# EAGLE library part RASPBERRYPI-CM4 (library CM4)
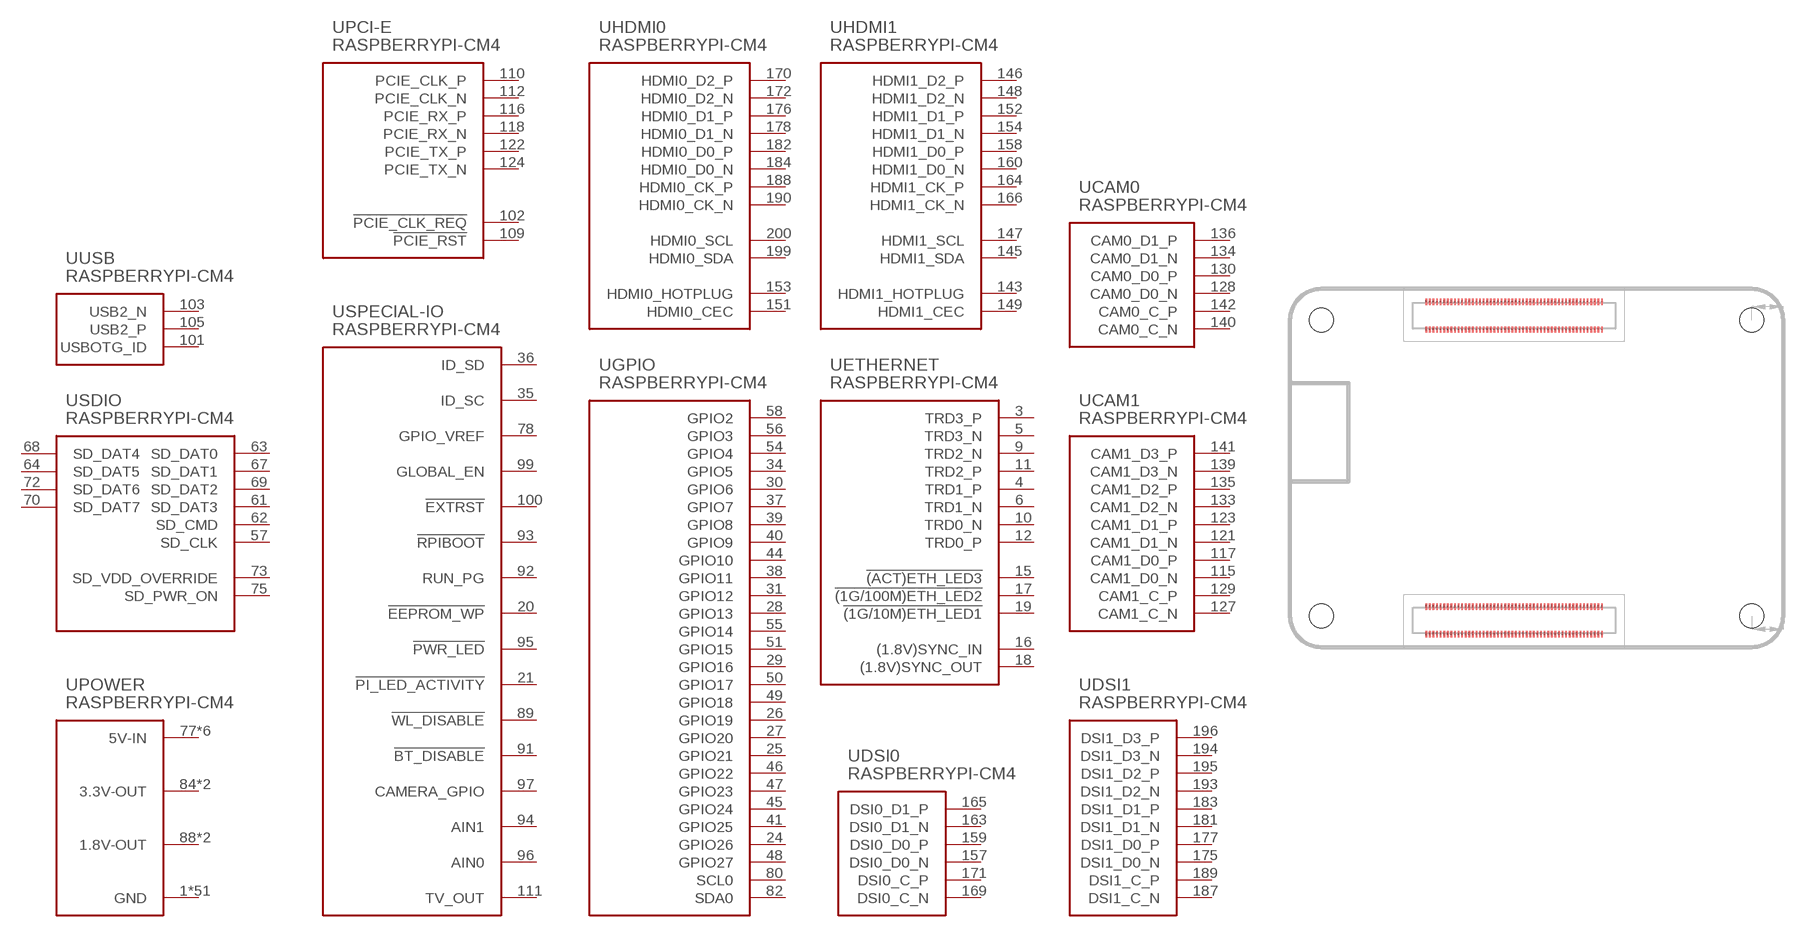
[diagram p0: symbol with the pads of RASPBERRYPI-CM4; footprint RASPBERRYPI-CM4]

Designator prefix -; gates POWER=CM4-POWER SDIO=CM4-SD SPECIAL-IO=CM4-SPECIAL-IO USB=CM4-USB GPIO=CM4-GPIO PCI-E=CM4-PCIE HDMI0=CM4-HDMI0 HDMI1=CM4-HDMI1 ETHERNET=CM4-ETHERNET DSI1=CM4-DSI1 DSI0=CM4-DSI0 CAM1=CM4-CAM1 CAM0=CM4-CAM0

## RASPBERRYPI-CM4  [RASPBERRYPI-CM4]
1  POWER:GND
2  POWER:GND
3  ETHERNET:TRD3_P
4  ETHERNET:TRD1_P
5  ETHERNET:TRD3_N
6  ETHERNET:TRD1_N
7  POWER:GND
8  POWER:GND
9  ETHERNET:TRD2_N
10  ETHERNET:TRD0_N
11  ETHERNET:TRD2_P
12  ETHERNET:TRD0_P
13  POWER:GND
14  POWER:GND
15  ETHERNET:!(ACT)ETH_LED3
16  ETHERNET:(1.8V)SYNC_IN
17  ETHERNET:!(1G/100M)ETH_LED2
18  ETHERNET:(1.8V)SYNC_OUT
19  ETHERNET:!(1G/10M)ETH_LED1
20  SPECIAL-IO:!EEPROM_WP
21  SPECIAL-IO:!PI_LED_ACTIVITY
22  POWER:GND
23  POWER:GND
24  GPIO:GPIO26
25  GPIO:GPIO21
26  GPIO:GPIO19
27  GPIO:GPIO20
28  GPIO:GPIO13
29  GPIO:GPIO16
30  GPIO:GPIO6
31  GPIO:GPIO12
32  POWER:GND
33  POWER:GND
34  GPIO:GPIO5
35  SPECIAL-IO:ID_SC
36  SPECIAL-IO:ID_SD
37  GPIO:GPIO7
38  GPIO:GPIO11
39  GPIO:GPIO8
40  GPIO:GPIO9
41  GPIO:GPIO25
42  POWER:GND
43  POWER:GND
44  GPIO:GPIO10
45  GPIO:GPIO24
46  GPIO:GPIO22
47  GPIO:GPIO23
48  GPIO:GPIO27
49  GPIO:GPIO18
50  GPIO:GPIO17
51  GPIO:GPIO15
52  POWER:GND
53  POWER:GND
54  GPIO:GPIO4
55  GPIO:GPIO14
56  GPIO:GPIO3
57  SDIO:SD_CLK
58  GPIO:GPIO2
59  POWER:GND
60  POWER:GND
61  SDIO:SD_DAT3
62  SDIO:SD_CMD
63  SDIO:SD_DAT0
64  SDIO:SD_DAT5
65  POWER:GND
66  POWER:GND
67  SDIO:SD_DAT1
68  SDIO:SD_DAT4
69  SDIO:SD_DAT2
70  SDIO:SD_DAT7
71  POWER:GND
72  SDIO:SD_DAT6
73  SDIO:SD_VDD_OVERRIDE
74  POWER:GND
75  SDIO:SD_PWR_ON
77  POWER:5V-IN  pwr
78  SPECIAL-IO:GPIO_VREF
79  POWER:5V-IN  pwr
80  GPIO:SCL0
81  POWER:5V-IN  pwr
82  GPIO:SDA0
83  POWER:5V-IN  pwr
84  POWER:3.3V-OUT  pwr
85  POWER:5V-IN  pwr
86  POWER:3.3V-OUT  pwr
87  POWER:5V-IN  pwr
88  POWER:1.8V-OUT  pwr
89  SPECIAL-IO:!WL_DISABLE
90  POWER:1.8V-OUT  pwr
91  SPECIAL-IO:!BT_DISABLE
92  SPECIAL-IO:RUN_PG
93  SPECIAL-IO:!RPIBOOT
94  SPECIAL-IO:AIN1
95  SPECIAL-IO:!PWR_LED
96  SPECIAL-IO:AIN0
97  SPECIAL-IO:CAMERA_GPIO
98  POWER:GND
99  SPECIAL-IO:GLOBAL_EN
100  SPECIAL-IO:!EXTRST
101  USB:USBOTG_ID
102  PCI-E:!PCIE_CLK_REQ
103  USB:USB2_N
105  USB:USB2_P
107  POWER:GND
108  POWER:GND
109  PCI-E:!PCIE_RST
110  PCI-E:PCIE_CLK_P
111  SPECIAL-IO:TV_OUT
112  PCI-E:PCIE_CLK_N
113  POWER:GND
114  POWER:GND
115  CAM1:CAM1_D0_N
116  PCI-E:PCIE_RX_P
117  CAM1:CAM1_D0_P
118  PCI-E:PCIE_RX_N
119  POWER:GND
120  POWER:GND
121  CAM1:CAM1_D1_N
122  PCI-E:PCIE_TX_P
123  CAM1:CAM1_D1_P
124  PCI-E:PCIE_TX_N
125  POWER:GND
126  POWER:GND
127  CAM1:CAM1_C_N
128  CAM0:CAM0_D0_N
129  CAM1:CAM1_C_P
130  CAM0:CAM0_D0_P
131  POWER:GND
132  POWER:GND
133  CAM1:CAM1_D2_N
134  CAM0:CAM0_D1_N
135  CAM1:CAM1_D2_P
136  CAM0:CAM0_D1_P
137  POWER:GND
138  POWER:GND
139  CAM1:CAM1_D3_N
140  CAM0:CAM0_C_N
141  CAM1:CAM1_D3_P
142  CAM0:CAM0_C_P
143  HDMI1:HDMI1_HOTPLUG
144  POWER:GND
145  HDMI1:HDMI1_SDA
146  HDMI1:HDMI1_D2_P
147  HDMI1:HDMI1_SCL
148  HDMI1:HDMI1_D2_N
149  HDMI1:HDMI1_CEC
150  POWER:GND
151  HDMI0:HDMI0_CEC
152  HDMI1:HDMI1_D1_P
153  HDMI0:HDMI0_HOTPLUG
154  HDMI1:HDMI1_D1_N
155  POWER:GND
156  POWER:GND
157  DSI0:DSI0_D0_N
158  HDMI1:HDMI1_D0_P
159  DSI0:DSI0_D0_P
160  HDMI1:HDMI1_D0_N
161  POWER:GND
162  POWER:GND
163  DSI0:DSI0_D1_N
164  HDMI1:HDMI1_CK_P
165  DSI0:DSI0_D1_P
166  HDMI1:HDMI1_CK_N
167  POWER:GND
168  POWER:GND
169  DSI0:DSI0_C_N
170  HDMI0:HDMI0_D2_P
171  DSI0:DSI0_C_P
172  HDMI0:HDMI0_D2_N
173  POWER:GND
174  POWER:GND
175  DSI1:DSI1_D0_N
176  HDMI0:HDMI0_D1_P
177  DSI1:DSI1_D0_P
178  HDMI0:HDMI0_D1_N
179  POWER:GND
180  POWER:GND
181  DSI1:DSI1_D1_N
182  HDMI0:HDMI0_D0_P
183  DSI1:DSI1_D1_P
184  HDMI0:HDMI0_D0_N
185  POWER:GND
186  POWER:GND
187  DSI1:DSI1_C_N
188  HDMI0:HDMI0_CK_P
189  DSI1:DSI1_C_P
190  HDMI0:HDMI0_CK_N
191  POWER:GND
192  POWER:GND
193  DSI1:DSI1_D2_N
194  DSI1:DSI1_D3_N
195  DSI1:DSI1_D2_P
196  DSI1:DSI1_D3_P
197  POWER:GND
198  POWER:GND
199  HDMI0:HDMI0_SDA
200  HDMI0:HDMI0_SCL

## Footprint RASPBERRYPI-CM4 (pad centres in mm)
DF40C-100DS-0.4V(51)-2
smd 0.2 x 0.7: 1 9.8,35.54; 2 9.8,32.46; 3 9.4,35.54; 4 9.4,32.46; 5 9,35.54; 6 9,32.46; 7 8.6,35.54; 8 8.6,32.46; 9 8.2,35.54; 10 8.2,32.46; 11 7.8,35.54; 12 7.8,32.46; 13 7.4,35.54; 14 7.4,32.46; 15 7,35.54; 16 7,32.46; 17 6.6,35.54; 18 6.6,32.46; 19 6.2,35.54; 20 6.2,32.46; 21 5.8,35.54; 22 5.8,32.46; 23 5.4,35.54; 24 5.4,32.46; 25 5,35.54; 26 5,32.46; 27 4.6,35.54; 28 4.6,32.46; 29 4.2,35.54; 30 4.2,32.46; 31 3.8,35.54; 32 3.8,32.46; 33 3.4,35.54; 34 3.4,32.46; 35 3,35.54; 36 3,32.46; 37 2.6,35.54; 38 2.6,32.46; 39 2.2,35.54; 40 2.2,32.46; 41 1.8,35.54; 42 1.8,32.46; 43 1.4,35.54; 44 1.4,32.46; 45 1,35.54; 46 1,32.46; 47 0.6,35.54; 48 0.6,32.46; 49 0.2,35.54; 50 0.2,32.46; 51 -0.2,35.54; 52 -0.2,32.46; 53 -0.6,35.54; 54 -0.6,32.46; 55 -1,35.54; 56 -1,32.46; 57 -1.4,35.54; 58 -1.4,32.46; 59 -1.8,35.54; 60 -1.8,32.46; 61 -2.2,35.54; 62 -2.2,32.46; 63 -2.6,35.54; 64 -2.6,32.46; 65 -3,35.54; 66 -3,32.46; 67 -3.4,35.54; 68 -3.4,32.46; 69 -3.8,35.54; 70 -3.8,32.46; 71 -4.2,35.54; 72 -4.2,32.46; 73 -4.6,35.54; 74 -4.6,32.46; 75 -5,35.54; 76 -5,32.46; 77 -5.4,35.54; 78 -5.4,32.46; 79 -5.8,35.54; 80 -5.8,32.46; 81 -6.2,35.54; 82 -6.2,32.46; 83 -6.6,35.54; 84 -6.6,32.46; 85 -7,35.54; 86 -7,32.46; 87 -7.4,35.54; 88 -7.4,32.46; 89 -7.8,35.54; 90 -7.8,32.46; 91 -8.2,35.54; 92 -8.2,32.46; 93 -8.6,35.54; 94 -8.6,32.46; 95 -9,35.54; 96 -9,32.46; 97 -9.4,35.54; 98 -9.4,32.46; 99 -9.8,35.54; 100 -9.8,32.46; 101 9.8,1.54; 102 9.8,-1.54; 103 9.4,1.54; 104 9.4,-1.54; 105 9,1.54; 106 9,-1.54; 107 8.6,1.54; 108 8.6,-1.54; 109 8.2,1.54; 110 8.2,-1.54; 111 7.8,1.54; 112 7.8,-1.54; 113 7.4,1.54; 114 7.4,-1.54; 115 7,1.54; 116 7,-1.54; 117 6.6,1.54; 118 6.6,-1.54; 119 6.2,1.54; 120 6.2,-1.54; 121 5.8,1.54; 122 5.8,-1.54; 123 5.4,1.54; 124 5.4,-1.54; 125 5,1.54; 126 5,-1.54; 127 4.6,1.54; 128 4.6,-1.54; 129 4.2,1.54; 130 4.2,-1.54; 131 3.8,1.54; 132 3.8,-1.54; 133 3.4,1.54; 134 3.4,-1.54; 135 3,1.54; 136 3,-1.54; 137 2.6,1.54; 138 2.6,-1.54; 139 2.2,1.54; 140 2.2,-1.54; 141 1.8,1.54; 142 1.8,-1.54; 143 1.4,1.54; 144 1.4,-1.54; 145 1,1.54; 146 1,-1.54; 147 0.6,1.54; 148 0.6,-1.54; 149 0.2,1.54; 150 0.2,-1.54; 151 -0.2,1.54; 152 -0.2,-1.54; 153 -0.6,1.54; 154 -0.6,-1.54; 155 -1,1.54; 156 -1,-1.54; 157 -1.4,1.54; 158 -1.4,-1.54; 159 -1.8,1.54; 160 -1.8,-1.54; 161 -2.2,1.54; 162 -2.2,-1.54; 163 -2.6,1.54; 164 -2.6,-1.54; 165 -3,1.54; 166 -3,-1.54; 167 -3.4,1.54; 168 -3.4,-1.54; 169 -3.8,1.54; 170 -3.8,-1.54; 171 -4.2,1.54; 172 -4.2,-1.54; 173 -4.6,1.54; 174 -4.6,-1.54; 175 -5,1.54; 176 -5,-1.54; 177 -5.4,1.54; 178 -5.4,-1.54; 179 -5.8,1.54; 180 -5.8,-1.54; 181 -6.2,1.54; 182 -6.2,-1.54; 183 -6.6,1.54; 184 -6.6,-1.54; 185 -7,1.54; 186 -7,-1.54; 187 -7.4,1.54; 188 -7.4,-1.54; 189 -7.8,1.54; 190 -7.8,-1.54; 191 -8.2,1.54; 192 -8.2,-1.54; 193 -8.6,1.54; 194 -8.6,-1.54; 195 -9,1.54; 196 -9,-1.54; 197 -9.4,1.54; 198 -9.4,-1.54; 199 -9.8,1.54; 200 -9.8,-1.54
hole 2.7 at -21.5,33.5
hole 2.7 at 26.5,33.5
hole 2.7 at -21.5,0.5
hole 2.7 at 26.5,0.5